# EAGLE library part ARDUINO_FIO (library kotobuki)
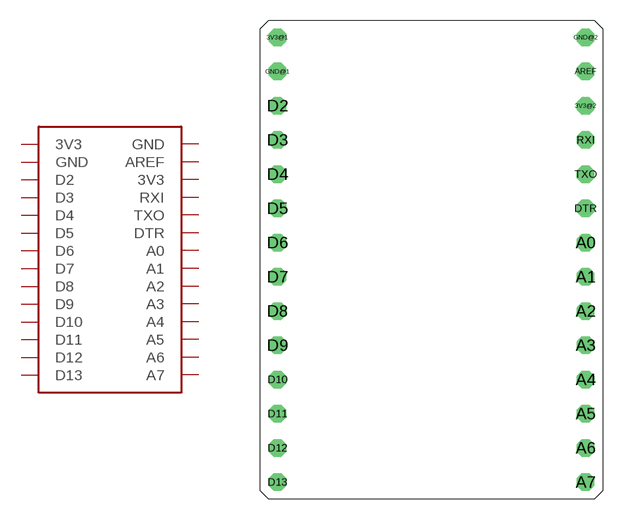
[diagram p1: symbol with the pads of ARDUINO_FIO_SHIELD; footprint ARDUINO_FIO_SHIELD]

Designator prefix -

## ARDUINO_FIO  [ARDUINO_FIO_SHIELD]
3V3@1  3V3  pwr
3V3@2  3V3  pwr
A0  A0
A1  A1
A2  A2
A3  A3
A4  A4
A5  A5
A6  A6
A7  A7
AREF  AREF
D2  D2
D3  D3
D4  D4
D5  D5
D6  D6
D7  D7
D8  D8
D9  D9
D10  D10
D11  D11
D12  D12
D13  D13
DTR  DTR
GND@1  GND  pwr
GND@2  GND  pwr
RXI  RXI
TXO  TXO

## Footprint ARDUINO_FIO_SHIELD (pad centres in mm)
drill 0.8 octagon: 3V3@1 0,0; 3V3@2 22.86,-5.08; A0 22.86,-15.24; A1 22.86,-17.78; A2 22.86,-20.32; A3 22.86,-22.86; A4 22.86,-25.4; A5 22.86,-27.94; A6 22.86,-30.48; A7 22.86,-33.02; AREF 22.86,-2.54; D2 0,-5.08; D3 0,-7.62; D4 0,-10.16; D5 0,-12.7; D6 0,-15.24; D7 0,-17.78; D8 0,-20.32; D9 0,-22.86; D10 0,-25.4; D11 0,-27.94; D12 0,-30.48; D13 0,-33.02; DTR 22.86,-12.7; GND@1 0,-2.54; GND@2 22.86,0; RXI 22.86,-7.62; TXO 22.86,-10.16